# Altium schematic symbol library 74LCX125.SchLib: 1 symbol
Pins are listed as number, name and electrical type; pins without a type are passive.

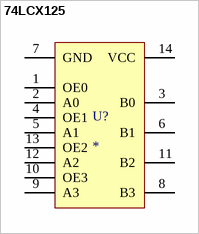
[diagram p0: symbol 74LCX125]

## 74LCX125
designator U?
Low Voltage Quad Buffer with 5V Tolerant; Manufacturer: Fairchild Semi; Part No.: 74LCX125; Vendor: Mouser; Price Est.: $0.31
footprint TSSOP14 (Shrink Small Outline; 14 Leads; Body Width 4.4 mm; Pitch 0.65 mm)
pins: 1 OE0, 2 A0, 3 B0, 4 OE1, 5 A1, 6 B1, 7 GND, 8 B3, 9 A3, 10 OE3, 11 B2, 12 A2, 13 OE2, 14 VCC